# EAGLE library part AD747* (library NewSDR)
Analog Devices 1 Msps, 12/10/8-Bit ADC
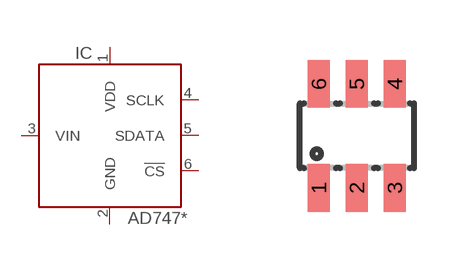
[diagram p158: symbol with the pads of SOT23-6L; footprint SOT23-6L]

Designator prefix IC

## AD7476ARTZ (BITS: 12), AD7477ARTZ (BITS: 10), AD7478ARTZ (BITS: 8)  [SOT23-6L]
1  VDD  pwr
2  GND  pwr
3  VIN  in
4  SCLK  in
5  SDATA  out
6  !CS  in

## Footprint SOT23-6L (pad centres in mm)
Small Outline Transistor
smd 0.55 x 1.2: 1 -0.95,-1.3; 2 0,-1.3; 3 0.95,-1.3; 4 0.95,1.3; 5 0,1.3; 6 -0.95,1.3